# Altium integrated library BBB_Headers.IntLib: 1 symbol
Pins are listed as number, name and electrical type; pins without a type are passive.

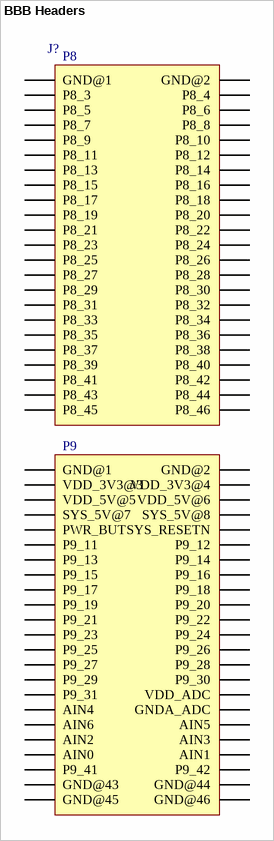
[diagram p0: symbol BBB Headers]

## BBB Headers
designator J?  (value not drawn)
footprint BBB_Cape
pins: 1 GND@1 (power), 2 GND@2 (power), 3 P8_3, 4 P8_4, 5 P8_5, 6 P8_6, 7 P8_7, 8 P8_8, 9 P8_9, 10 P8_10, 11 P8_11, 12 P8_12, 13 P8_13, 14 P8_14, 15 P8_15, 16 P8_16, 17 P8_17, 18 P8_18, 19 P8_19, 20 P8_20, 21 P8_21, 22 P8_22, 23 P8_23, 24 P8_24, 25 P8_25, 26 P8_26, 27 P8_27, 28 P8_28, 29 P8_29, 30 P8_30, 31 P8_31, 32 P8_32, 33 P8_33, 34 P8_34, 35 P8_35, 36 P8_36, 37 P8_37, 38 P8_38, 39 P8_39, 40 P8_40, 41 P8_41, 42 P8_42, 43 P8_43, 44 P8_44, 45 P8_45, 46 P8_46, 47 GND@1 (power), 48 GND@2 (power), 49 VDD_3V3@3 (power), 50 VDD_3V3@4 (power), 51 VDD_5V@5 (power), 52 VDD_5V@6 (power), 53 SYS_5V@7 (power), 54 SYS_5V@8, 55 PWR_BUT, 56 SYS_RESETN, 57 P9_11, 58 P9_12, 59 P9_13, 60 P9_14, 61 P9_15, 62 P9_16, 63 P9_17, 64 P9_18, 65 P9_19, 66 P9_20, 67 P9_21, 68 P9_22, 69 P9_23, 70 P9_24, 71 P9_25, 72 P9_26, 73 P9_27, 74 P9_28, 75 P9_29, 76 P9_30, 77 P9_31, 78 VDD_ADC, 79 AIN4, 80 GNDA_ADC, 81 AIN6, 82 AIN5, 83 AIN2, 84 AIN3, 85 AIN0 (power), 86 AIN1, 87 P9_41, 88 P9_42, 89 GND@43 (power), 90 GND@44 (power), 91 GND@45 (power), 92 GND@46 (power)
text: P8; P9